# Altium footprint library ONSEMI_TDFNW8.PcbLib: 1 footprints
Each footprint in its own frame and in the unit in brackets; x right, y up, seen from the top. Pads: shape width x height; smd on the part's side, far side on the other; paste and mask are expansions set on the pad; w line width, h text height; cw(c..) or ccw(c..) is an arc to the next point about the centre after c.
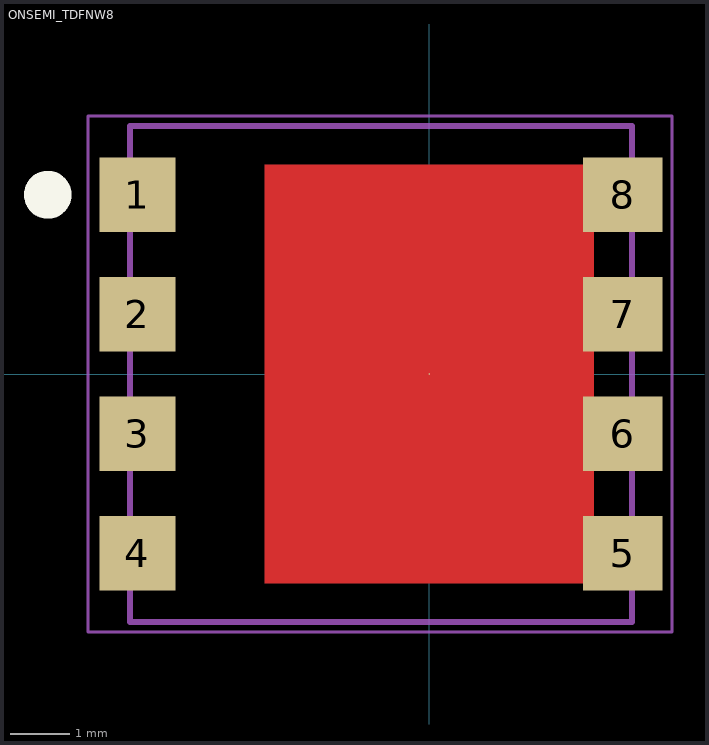
[diagram p0: the footprint, top view; thin cyan lines are the x and y axes]

## ONSEMI_TDFNW8 [mm]
height 1.2
pads (9):
  rect 1.27x1.25 smd paste-0.05 mask+0.05: 1(-4.885,3) 2(-4.885,1) 3(-4.885,-1) 4(-4.885,-3)
  round 0.025 smd paste-2539.97 mask+0.05: 5(0,0)
  rect 1.33x1.25 smd paste-0.05 mask+0.05: 5(3.235,-3) 6(3.235,-1) 7(3.235,1) 8(3.235,3)
Top Layer:
  region: -2.75,-3.5 -2.75,3.5 2.75,3.5 2.75,-3.5
Top Overlay:
  circle w0.4: c-6.385,3 r0.2
Top Paste:
  region: -1.35,3.2 -2.35,3.2 -2.35,1.2 -1.35,1.2
  region: -1.35,-1.2 -2.35,-1.2 -2.35,-3.2 -1.35,-3.2
  region: 0.15,-1.2 -0.85,-1.2 -0.85,-3.2 0.15,-3.2
  region: 1.65,-1.2 0.65,-1.2 0.65,-3.2 1.65,-3.2
  region: 0.15,3.2 -0.85,3.2 -0.85,1.2 0.15,1.2
  region: 1.65,3.2 0.65,3.2 0.65,1.2 1.65,1.2
Top Solder:
  rectangle: -2.8,-3.55 2.8,3.55
Mechanical 13:
  lines w0.1: -5.01,-4.15 -5.01,4.15 3.39,4.15 3.39,-4.15 -5.01,-4.15
Mechanical 15:
  lines w0.05: -5.715,-4.318 -5.715,4.318 4.064,4.318 4.064,-4.318 -5.715,-4.318
  lines w0.1: -0.5,0 0.5,0 ; 0,-0.5 0,0.5
3D body: height 1.2, standoff 0, extent -5.01,-4.15 3.39,4.15